# Altium footprint library CustomFootprints.PcbLib: 45 footprints (part 1 of 3)
Each footprint in its own frame and in the unit in brackets; x right, y up, seen from the top. Pads: shape width x height; smd on the part's side, far side on the other; paste and mask are expansions set on the pad; w line width, h text height; cw(c..) or ccw(c..) is an arc to the next point about the centre after c.
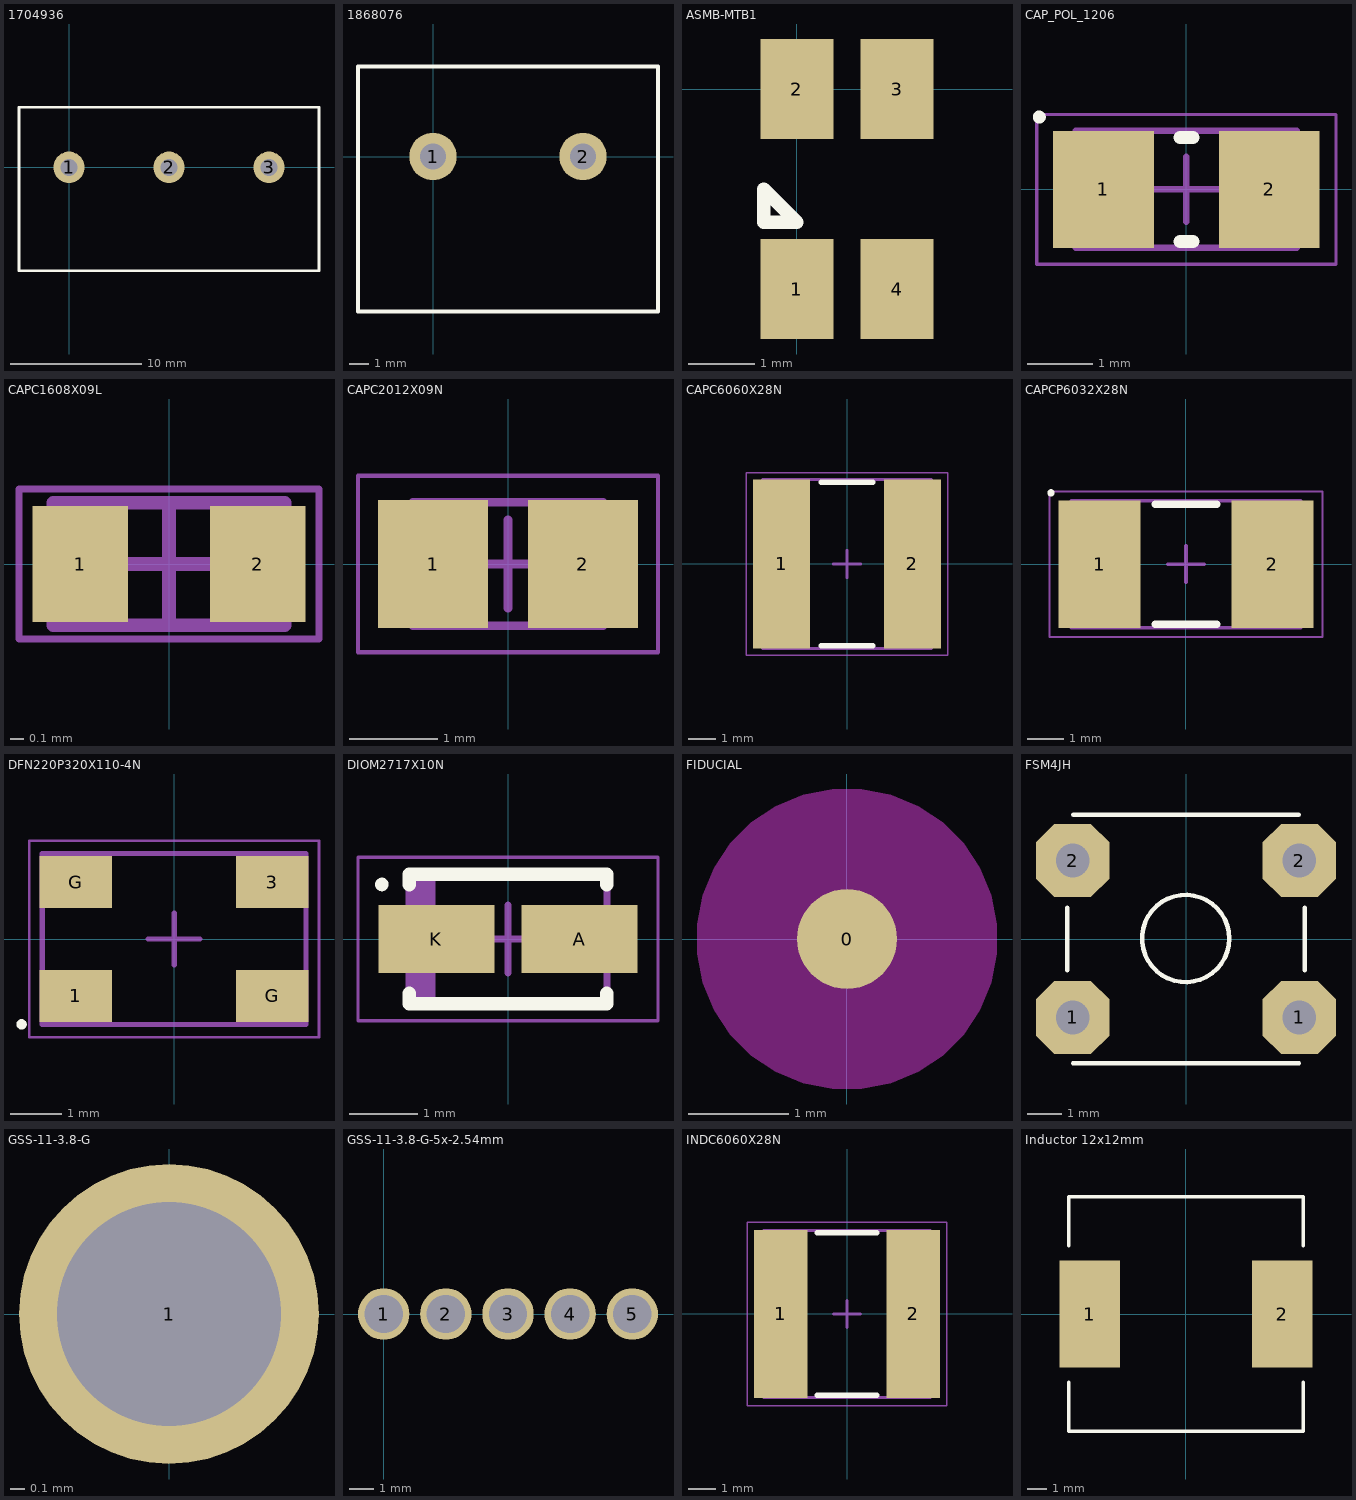
[diagram p0: the footprints below, top view; thin cyan lines are the x and y axes]

## 1704936 [mm] "CONN TERM BLOCK 3POS 7.62MM"
height 22
pads (3):
  round 2.4 hole 1.3: 1(0,0) 2(7.62,0) 3(15.24,0)
Top Overlay:
  lines w0.2: -3.81,-7.874 -3.81,4.572 19.05,4.572 19.05,-7.874 -3.81,-7.874

## 1868076 [mm] "CONN TERM BLOCK 2POS 7.62MM"
height 22
pads (2):
  round 2.4 hole 1.3: 1(0,0) 2(7.62,0)
Top Overlay:
  lines w0.2: -3.81,-7.874 11.43,-7.874 11.43,4.572 -3.81,4.572 -3.81,-7.874

## ASMB-MTB1 [mm]
pads (4):
  rect 1.1x1.5 smd: 1(0,-3) 2(0,0) 3(1.5,0) 4(1.5,-3)
Top Overlay:
  lines w0.2: -0.5,-2 -0.5,-1.5 0,-2 ; -0.5,-2 0,-2 ; -0.5,-2 0,-2

## CAP_POL_1206 [mm] "Chip Capacitor, 2-Leads, Body 3.20x1.60mm, IPC Medium Density"
height 1.8
pads (2):
  rect 1.55x1.8 smd: 1(-1.275,0) 2(1.275,0)
Top Overlay:
  circle w0.1: c-2.262,1.112 r0.05
  lines w0.2: -0.1,-0.8 0.1,-0.8 ; -0.1,0.8 0.1,0.8
Mechanical 13:
  lines w0.1: -1.7,-0.9 -1.7,0.9 1.7,0.9 1.7,-0.9 -1.7,-0.9
Mechanical 15:
  lines w0.05: -2.3,-1.15 -2.3,1.15 2.3,1.15 2.3,-1.15 -2.3,-1.15
  lines w0.1: -0.5,0 0.5,0 ; 0,-0.5 0,0.5
3D body: height 1.8, standoff 0, extent -0.9,-0.9 0.9,0.9
3D body: height 1.8, standoff 0, extent -1.7,-0.9 -0.9,0.9
3D body: height 1.8, standoff 0, extent 0.9,-0.9 1.7,0.9

## CAPC1608X09L [mm] "Chip Capacitor, 2-Leads, Body 1.60x0.80mm, IPC High Density"
height 0.9
pads (2):
  rect 0.7x0.85 smd: 1(-0.65,0) 2(0.65,0)
Mechanical 13:
  lines w0.1: -0.85,-0.45 -0.85,0.45 0.85,0.45 0.85,-0.45 -0.85,-0.45
Mechanical 15:
  lines w0.05: -1.1,-0.55 -1.1,0.55 1.1,0.55 1.1,-0.55 -1.1,-0.55
  lines w0.1: -0.45,0 0.45,0 ; 0,-0.45 0,0.45
3D body: height 0.9, standoff 0, extent -0.55,-0.45 0.55,0.45
3D body: height 0.9, standoff 0, extent -0.85,-0.45 -0.55,0.45
3D body: height 0.9, standoff 0, extent 0.55,-0.45 0.85,0.45

## CAPC2012X09N [mm] "Chip Capacitor, 2-Leads, Body 2.00x1.25mm, IPC Medium Density"
height 0.95
pads (2):
  rect 1.25x1.45 smd: 1(-0.85,0) 2(0.85,0)
Mechanical 13:
  lines w0.1: -1.075,-0.7 1.075,-0.7 1.075,0.7 -1.075,0.7 -1.075,-0.7
Mechanical 15:
  lines w0.05: -1.7,-1 1.7,-1 1.7,1 -1.7,1 -1.7,-1
  lines w0.1: -0.5,0 0.5,0 ; 0,-0.5 0,0.5
3D body: height 0.95, standoff 0, extent 0.625,-0.7 1.075,0.7
3D body: height 0.95, standoff 0, extent -1.075,-0.7 -0.625,0.7
3D body: height 0.95, standoff 0, extent -0.625,-0.7 0.625,0.7

## CAPC6060X28N [mm] "Chip Capacitor, 2-Leads, Body 6.00x6.00mm, IPC Medium Density"
height 2.8
pads (2):
  rect 2.1x6.2 smd: 1(-2.4,0) 2(2.4,0)
Top Overlay:
  lines w0.2: -0.95,-3 0.95,-3 ; -0.95,3 0.95,3
Mechanical 13:
  lines w0.1: -3.1,-3.1 -3.1,3.1 3.1,3.1 3.1,-3.1 -3.1,-3.1
Mechanical 15:
  lines w0.05: -3.7,-3.35 -3.7,3.35 3.7,3.35 3.7,-3.35 -3.7,-3.35
  lines w0.1: -0.5,0 0.5,0 ; 0,-0.5 0,0.5
3D body: height 2.8, standoff 0, extent -1.75,-3.1 1.75,3.1
3D body: height 2.8, standoff 0, extent -3.1,-3.1 -1.75,3.1
3D body: height 2.8, standoff 0, extent 1.75,-3.1 3.1,3.1

## CAPCP6032X28N [mm] "Chip Capacitor, 2-Leads, Body 6.00x3.20mm, IPC Medium Density"
height 2.8
pads (2):
  rect 2.25x3.5 smd: 1(-2.375,0) 2(2.375,0)
Top Overlay:
  circle w0.1: c-3.712,1.962 r0.05
  lines w0.2: -0.85,-1.65 0.85,-1.65 ; -0.85,1.65 0.85,1.65
Mechanical 13:
  lines w0.1: -3.15,-1.75 3.15,-1.75 3.15,1.75 -3.15,1.75 -3.15,-1.75
Mechanical 15:
  lines w0.05: -3.75,-2 3.75,-2 3.75,2 -3.75,2 -3.75,-2
  lines w0.1: -0.5,0 0.5,0 ; 0,-0.5 0,0.5
3D body: height 2.8, standoff 0, extent 1.85,-1.75 3.15,1.75
3D body: height 2.8, standoff 0, extent -3.15,-1.75 -1.85,1.75
3D body: height 2.8, standoff 0, extent -1.85,-1.75 1.85,1.75

## DFN220P320X110-4N [mm] "DFN, 4-Leads, Body 5.00x3.20mm, Pitch 2.20mm, IPC Medium Density"
height 1.1
pads (4):
  rect 1.4x1 smd: 1(-1.9,-1.1) 3(1.9,1.1) G(-1.9,1.1) G(1.9,-1.1)
Top Overlay:
  circle w0.1: c-2.95,-1.65 r0.05
Mechanical 13:
  lines w0.1: -2.55,-1.65 -2.55,1.65 2.55,1.65 2.55,-1.65 -2.55,-1.65
Mechanical 15:
  lines w0.05: -2.8,-1.9 -2.8,1.9 2.8,1.9 2.8,-1.9 -2.8,-1.9
  lines w0.1: -0.5,0 0.5,0 ; 0,-0.5 0,0.5
3D body: height 1.1, standoff 0, extent -2.55,-1.65 2.55,1.65

## DIOM2717X10N [mm] "Molded Diode, 2-Leads, Body 2.70x1.65mm, IPC Medium Density"
height 1
pads (2):
  rect 1.7x1 smd: A(1.05,0) K(-1.05,0)
Top Overlay:
  circle w0.1: c-1.85,0.8 r0.05
  lines w0.2: -1.45,-0.8 -1.45,-0.95 1.45,-0.95 1.45,-0.8 ; -1.45,0.8 -1.45,0.95 1.45,0.95 1.45,0.8
Mechanical 13:
  rectangle: -1.45,-0.9 -1.06,0.9
  lines w0.1: -1.45,-0.9 -1.45,0.9 1.45,0.9 1.45,-0.9 -1.45,-0.9
Mechanical 15:
  lines w0.05: -2.2,-1.2 -2.2,1.2 2.2,1.2 2.2,-1.2 -2.2,-1.2
  lines w0.1: -0.5,0 0.5,0 ; 0,-0.5 0,0.5
3D body: height 1, standoff 0, extent -1.45,-0.9 1.45,0.9

## FIDUCIAL [mm] "1mm fiducial with 3mm keepout"
pads (1):
  round 1 smd paste-1 mask+0.5: 0(0,0)
Keep-Out Layer:
  region: 0,-1.5 -0.148,-1.5 -0.438,-1.442 -0.711,-1.329 -0.956,-1.165 -1.165,-0.956 -1.329,-0.711 -1.442,-0.438 -1.5,-0.148 -1.5,0 -1.5,0.148 -1.442,0.438 -1.329,0.711 -1.165,0.956 -0.956,1.165 -0.711,1.329 -0.438,1.442 -0.148,1.5 0,1.5 0.148,1.5 0.438,1.442 0.711,1.329 0.956,1.165 1.165,0.956 1.329,0.711 1.442,0.438 1.5,0.148 1.5,0 1.5,-0.148 1.442,-0.438 1.329,-0.711 1.165,-0.956 0.956,-1.165 0.711,-1.329 0.438,-1.442 0.148,-1.5

## FSM4JH [mm] "SWITCH, SPNO, 0.05A"
height 5
pads (4):
  oct 2.1x2.1 hole 0.965: 1(-3.25,-2.25) 1(3.25,-2.25) 2(-3.25,2.25) 2(3.25,2.25)
Top Overlay:
  circle w0.127: c-0.011,0.014 r1.25
  lines w0.127: -3.4,-0.9 -3.4,0.9 ; -3.239,-3.556 3.24,-3.556 ; -3.236,3.556 3.236,3.556 ; 3.4,-0.9 3.4,0.9

## GSS-11-3.8-G [mm] "Contact Probe"
height 8.75
pads (1):
  round 2.1 hole 1.57: 1(0,0)

## GSS-11-3.8-G-5x-2.54mm [mm] "Contact Probe x5"
height 8.75
pads (5):
  round 2.1 hole 1.57: 1(0,0) 2(2.54,0) 3(5.08,0) 4(7.62,0) 5(10.16,0)

## INDC6060X28N [mm] "Chip Inductor, 2-Leads, Body 6.00x6.00mm, IPC Medium Density"
height 2.8
pads (2):
  rect 1.98x6.22 smd: 1(-2.46,0) 2(2.46,0)
Top Overlay:
  lines w0.2: -1.1,-3.01 1.1,-3.01 ; -1.1,3.01 1.1,3.01
Mechanical 13:
  lines w0.1: -3.1,-3.1 -3.1,3.1 3.1,3.1 3.1,-3.1 -3.1,-3.1
Mechanical 15:
  lines w0.05: -3.7,-3.4 -3.7,3.4 3.7,3.4 3.7,-3.4 -3.7,-3.4
  lines w0.1: -0.5,0 0.5,0 ; 0,-0.5 0,0.5
3D body: height 2.8, standoff 0, extent -1.75,-3.1 1.75,3.1
3D body: height 2.8, standoff 0, extent -3.1,-3.1 -1.75,3.1
3D body: height 2.8, standoff 0, extent 1.75,-3.1 3.1,3.1

## Inductor 12x12mm [mm]
pads (2):
  rect 3.1x5.5 smd: 1(-4.925,0) 2(4.925,0)
Top Overlay:
  lines w0.2: -6,-3.5 -6,-6 6,-6 6,-3.5 ; -6,3.5 -6,6 6,6 6,3.5